# Altium schematic symbol library VT.SchLib: 29 symbols
Pins are listed as number, name and electrical type; pins without a type are passive.

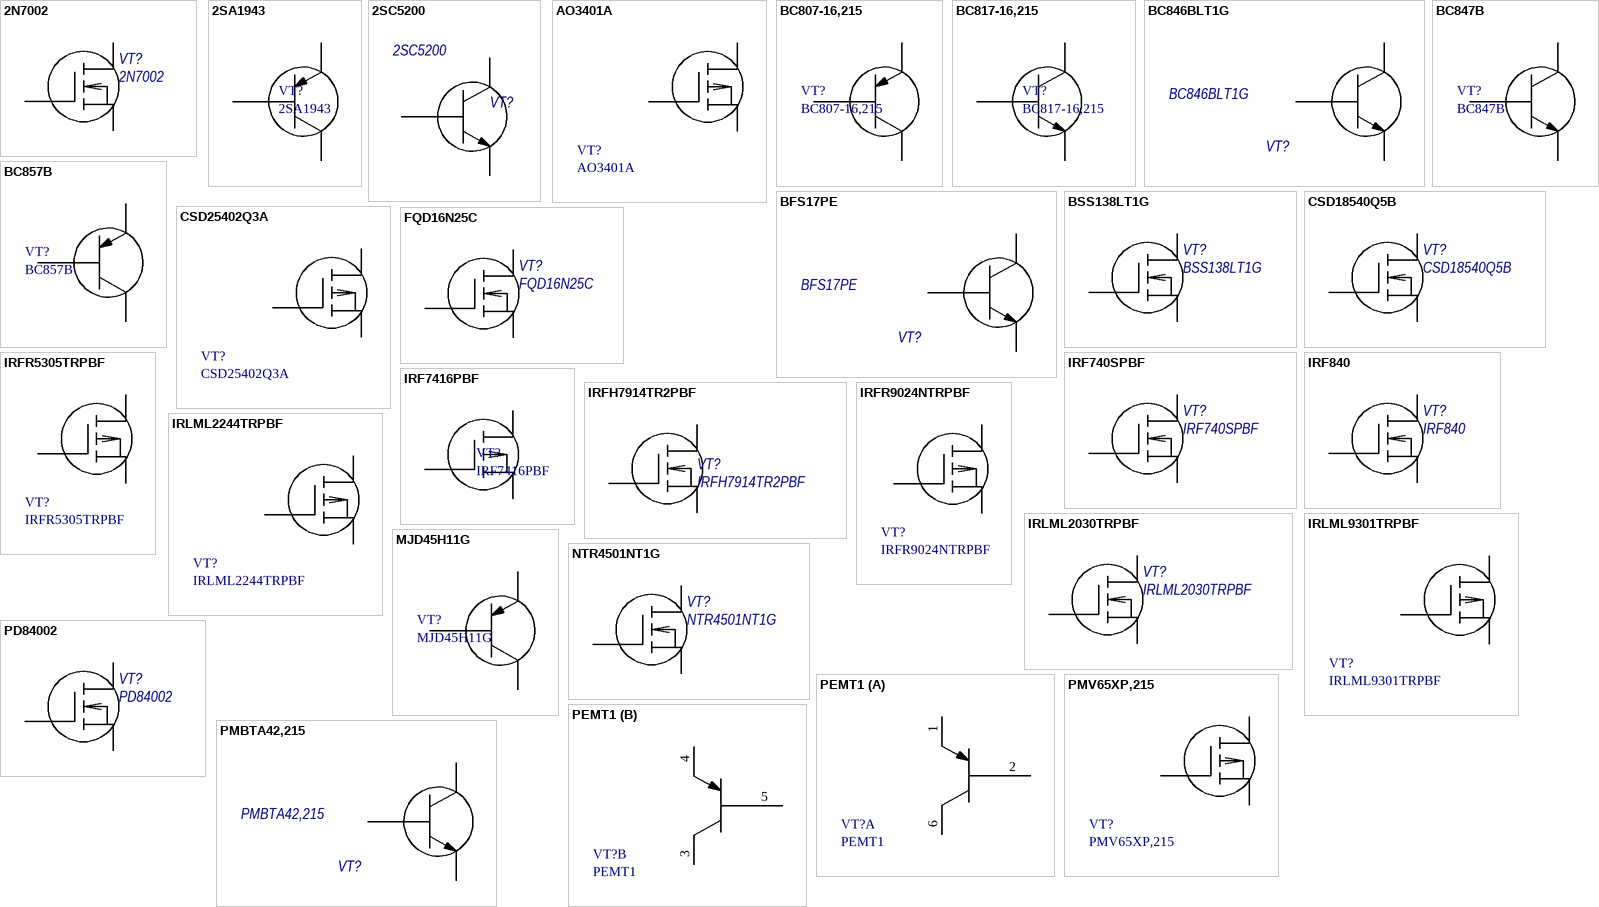
[diagram p0: symbols 2N7002 to PMV65XP,215]

## 2N7002
designator VT?
N MOSFET; Manufacturer: NEXPERIA; Part Number: 2N7002; ComponentLink1URL: https://www.ti.com/lit/ds/symlink/csd18540q5b.pdf; ComponentLink1Description: Datasheet; Type: MOSFET; Category: N
footprint SOT23-3
pins: 1 G, 2 S, 3 D

## 2SA1943
designator VT?
Bipolar PNP; Manufacturer: -; Part Number: 2SA1943; Сharacter: PNP; Type: Bipolar
footprint TO-3PL
pins: 1, 2, 3

## 2SC5200
designator VT?
Bipolar NPN; Part Number: 2SC5200; Сharacter: NPN; Type: Bipolar; Manufacturer: -
footprint TO-3PL
pins: 1, 2, 3

## AO3401A
designator VT?
P MOSFET; Manufacturer: Alpha & Omega; Part Number: AO3401A; Type: MOSFET; Сharacter: P
footprint SOT23-3
pins: 1 G, 2 S, 3 D

## BC807-16,215
designator VT?
Bipolar PNP; Manufacturer: Nexperia; Part Number: BC807-16,215; Сharacter: PNP; Type: Bipolar
footprint SOT23-3
pins: 1, 2, 3

## BC817-16,215
designator VT?
Bipolar NPN; Manufacturer: Nexperia; Part Number: BC817-16,215; Сharacter: NPN; Type: Bipolar
footprint SOT23-3
pins: 1, 2, 3

## BC846BLT1G
designator VT?
Bipolar NPN; Part Number: BC846BLT1G; Package: SOT-23-3; ComponentLink1URL: https://datasheet4u.com/datasheet-pdf/ETC/2SA1369/pdf.php?id=73412; ComponentLink1Description: Datasheet; Сharacter: NPN; Type: Bipolar
footprint SOT23-3
pins: 1, 2, 3

## BC847B
designator VT?
Bipolar NPN; Manufacturer: Nexperia; Part Number: BC847B; Сharacter: NPN; Type: Bipolar
footprint SOT23-3
pins: 1, 2, 3

## BC857B
designator VT?
Bipolar PNP; Manufacturer: Nexperia; Part Number: BC857B; Сharacter: PNP; Type: Bipolar
footprint SOT23-3
pins: 1, 2, 3

## BFS17PE
designator VT?
Bipolar NPN; Part Number: BFS17PE; Сharacter: NPN; Type: Bipolar; ComponentLink1URL: https://datasheet4u.com/datasheet-pdf/ETC/2SA1369/pdf.php?id=73412; ComponentLink1Description: Datasheet; Manufacturer: -
footprint SOT23-3
pins: 1, 2, 3

## BSS138LT1G
designator VT?
N MOSFET; Manufacturer: ON Semiconductor; Part Number: BSS138LT1G; Type: MOSFET; Category: N
footprint SOT23-3
pins: 1 G, 2 S, 3 D

## CSD18540Q5B
designator VT?
N MOSFET; Manufacturer: Texas Instruments; Part Number: CSD18540Q5B; ComponentLink1URL: https://www.ti.com/lit/ds/symlink/csd18540q5b.pdf; ComponentLink1Description: Datasheet; Type: MOSFET; Category: N
footprint PQFN5x6
pins: D, G, S

## CSD25402Q3A
designator VT?
P MOSFET; Manufacturer: Texas Instruments; Part Number: CSD25402Q3A; Type: MOSFET; Сharacter: P
footprint CSD25402Q3A
pins: D, G, S

## FQD16N25C
designator VT?
N MOSFET; Manufacturer: ON Semiconductor; Part Number: FQD16N25C; Type: MOSFET; Category: N
footprint D2PAK-3
pins: 1 G, 2 D, 3 S

## IRF740SPBF
designator VT?
N MOSFET; Manufacturer: Vishay; Part Number: IRF740SPBF; Type: MOSFET; Category: N
footprint D2PAK-3
pins: 1 G, 2 D, 3 S

## IRF840
designator VT?
N MOSFET; Manufacturer: Vishay; Part Number: IRF840; ComponentLink1URL: https://www.ti.com/lit/ds/symlink/csd18540q5b.pdf; ComponentLink1Description: Datasheet; Type: MOSFET; Category: N
footprint TO220AB (Footprint not found)
pins: 1 G, 2 D, 3 S

## IRF7416PBF
designator VT?
P MOSFET; Manufacturer: Infineon; Part Number: IRF7416PBF; Type: MOSFET; Сharacter: P
footprint SOIC-8
pins: 1 S, 2 S hidden to S, 3 S hidden to S, 4 G, 5 D, 6 D hidden to D, 7 D hidden to D, 8 D hidden to D

## IRFH7914TR2PBF
designator VT?
N MOSFET; Manufacturer: IOR; Part Number: IRFH7914TR2PBF; Type: MOSFET; Category: N
footprint PQFN5x6
pins: D, G, S

## IRFR5305TRPBF
designator VT?
P MOSFET; Manufacturer: Infineon; Part Number: IRFR5305TRPBF; Type: MOSFET; Сharacter: P
footprint D-PAK (Footprint not found)
pins: 1 G, 2 D, 3 S

## IRFR9024NTRPBF
designator VT?
P MOSFET; Manufacturer: Infineon; Part Number: IRFR9024NTRPBF; Type: MOSFET; Сharacter: P
footprint D-PAK (Footprint not found)
pins: 1 G, 2 D, 3 S

## IRLML2030TRPBF
designator VT?
N MOSFET; Manufacturer: Infineon; Part Number: IRLML2030TRPBF; ComponentLink1URL: https://www.ti.com/lit/ds/symlink/csd18540q5b.pdf; ComponentLink1Description: Datasheet; Type: MOSFET; Category: N
footprint SOT23-3
pins: 1 G, 2 S, 3 D

## IRLML2244TRPBF
designator VT?
P MOSFET; Manufacturer: Infineon; Part Number: IRLML2244TRPBF; Type: MOSFET; Сharacter: P
footprint SOT23-3
pins: 1 G, 2 S, 3 D

## IRLML9301TRPBF
designator VT?
P MOSFET; Manufacturer: Infineon; Part Number: IRLML9301TRPBF; Type: MOSFET; Сharacter: P
footprint SOT23-3
pins: 1 G, 2 S, 3 D

## MJD45H11G
designator VT?
Bipolar PNP; Manufacturer: ON Semiconductor; Part Number: MJD45H11G; Сharacter: PNP; Type: Bipolar
footprint D-PAK (Footprint not found)
pins: 1, 2, 3

## NTR4501NT1G
designator VT?
N MOSFET; Manufacturer: ON Semiconductor; Part Number: NTR4501NT1G; Type: MOSFET; Category: N
footprint SOT23-3
pins: 1 G, 2 S, 3 D

## PD84002
designator VT?
RF power transistor; Manufacturer: ST Microelectronics; Сharacter: N; Part Number: PD84002; ComponentLink1URL: https://www.alldatasheet.com/datasheet-pdf/pdf/236169/STMICROELECTRONICS/PD84002.html; ComponentLink1Description: Datasheet; Type: RF power transistor
footprint SOT-89 - FET
pins: D, G, S

## PEMT1
designator VT?
Bipolar  PNP; Manufacturer: Nexperia; Part Number: PEMT1; Type: Bipolar; Сharacter: PNP
footprint SOT666
part A pins: 1 E1, 2 B1, 6 C1
part B pins: 3 C2, 4 E2, 5 B2

## PMBTA42,215
designator VT?
Bipolar NPN; Manufacturer: Nexperia; Part Number: PMBTA42,215; Сharacter: NPN; Type: Bipolar; ComponentLink1URL: https://datasheet4u.com/datasheet-pdf/ETC/2SA1369/pdf.php?id=73412; ComponentLink1Description: Datasheet
footprint SOT23-3
pins: 1, 2, 3

## PMV65XP,215
designator VT?
P MOSFET; Manufacturer: NEXPERIA; Part Number: PMV65XP,215; Type: MOSFET; Сharacter: P
footprint SOT23-3
pins: 1 G, 2 S, 3 D